# Altium schematic symbol library MultiChannelFlex.SchLib: 1 symbol
Pins are listed as number, name and electrical type; pins without a type are passive.

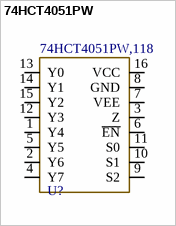
[diagram p0: symbol 74HCT4051PW]

## 74HCT4051PW
designator U?, comment 8x1 Analog MUX TSSOP16  (value not drawn)
footprint TSSOP-16
pins: 1 Y4, 2 Y6, 3 Z, 4 Y7, 5 Y5, 6 ~{EN}, 7 VEE, 8 GND, 9 S2, 10 S1, 11 S0, 12 Y3, 13 Y0, 14 Y1, 15 Y2, 16 VCC
text: 74HCT4051PW,118